# Altium integrated library Infineon_Power_MOSFET.IntLib: 1448 symbols (part 43 of 47)
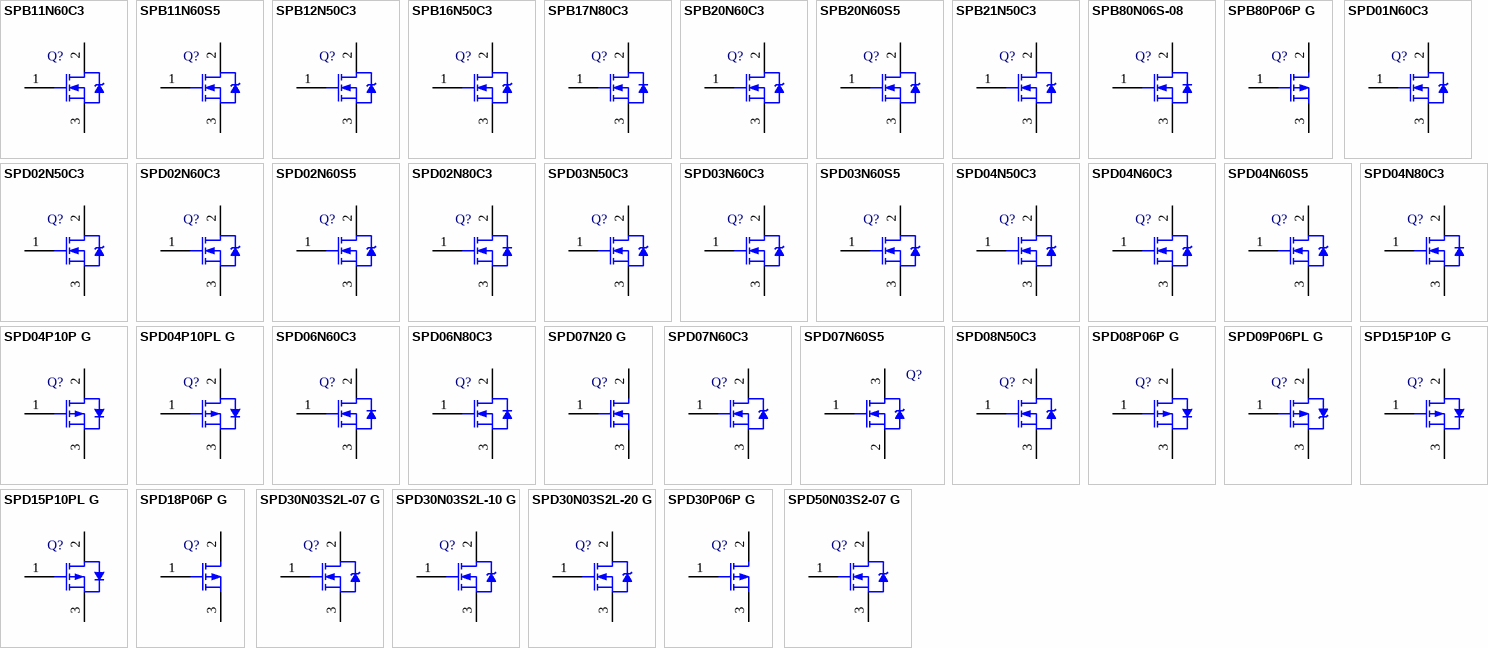
[diagram p79: symbols SPB11N60C3 to SPD50N03S2-07 G]

## SPB17N80C3
designator Q?
N-Channel CoolMOS Power-Transistor, 800 V VDS, 17 A ID, -55 to 150 degC, PG-TO263-3-2, Reel, Green; Manufacturer: Infineon; PartNumber: SPB17N80C3; Green: TRUE; ID (max): 17 A; IDpuls (max): 51 A; Mode: Enhancement; Polarity: N; Ptot (max): 227 W; QG: 91 nC; RDS (on) (max): 290 mOhm; Rth: 0.55 K/W; RthJA (max): 62 K/W; RthJC (max): 0.6 K/W; VDS (max): 800 V; VGS(th) (max): 3.9 V; VGS(th) (min): 2.1 V; DatasheetVersion: Rev. 2.5; PackageVersion: Jul-09; PackageReference: PG-TO263-3-2; PackageDescription: 3-Pin Plastic (Green) Transistor Single Outline Package, 10 x 9.25 mm Body, 2.54 mm Pitch; Supplier 1: Mouser; Supplier Part Number 1: 726-SPB17N80C3; Supplier 2: Newark; Supplier Part Number 2: 33P8201; Supplier 3: Farnell; Supplier Part Number 3: 1664102RL; Supplier 4: Farnell; Supplier Part Number 4: 1664102; Supplier 5: Digi-Key; Supplier Part Number 5: SPB17N80C3INTR-ND; Supplier 6: Digi-Key; Supplier Part Number 6: SPB17N80C3INCT-ND; Supplier 7: Digi-Key; Supplier Part Number 7: SPB17N80C3INDKR-ND; Halogen-free: TRUE; Packing: Reel; Technology: CoolMOS C3; Mounting Technology: Surface Mount; ComponentLink1Description: Manufacturer URL; ComponentLink1URL: http://www.infineon.com/; ComponentLink2Description: Datasheet; ComponentLink2URL: http://www.infineon.com/dgdl/SPB17N80C3_rev2.5_ratio.pdf?folderId=db3a304412b407950112b408e8c90004&fileId=db3a304412b407950112b42cc63d479f; ComponentLink3Description: Package Specification; ComponentLink3URL: http://www.infineon.com/dgdl/BTS141TC_DS_10.pdf?folderId=db3a3043163797a6011667aa084c0e01&fileId=db3a3043242ebc9e01242f43f58b003e&location=en.Products.Automotive_ICs.Smart_High-_and_Low-Side_Switches.HITFET___TEMPFET__-_Smart_Low-Side_Switches.DATASHEET.BTS141TC_DS_10.pdf
footprint INF-PG-TO263-3-2_N (DPAK, 3-Leads, Body 10x9.25mm, Pitch 2.54mm, IPC Medium Density)
footprint INF-PG-TO263-3-2_L (DPAK, 3-Leads, Body 10x9.25mm, Pitch 2.54mm, IPC High Density)
footprint INF-PG-TO263-3-2_M (DPAK, 3-Leads, Body 10x9.25mm, Pitch 2.54mm, IPC Low Density)
pins: 1 GATE, 2 DRAIN, 3 SOURCE

## SPB20N60C3
designator Q?
N-Channel CoolMOS Power-Transistor, 600 V VDS, 20.7 A ID, -55 to 150 degC, PG-TO263-3-2, Reel, Green; Manufacturer: Infineon; PartNumber: SPB20N60C3; Green: TRUE; ID (max): 20.7 A; IDpuls (max): 62.1 A; Polarity: N; Ptot (max): 208 W; QG: 87 nC; RDS (on) (max): 190 mOhm; Rth: 0.6 K/W; RthJA (max): 62 K/W; VDS (max): 600 V; VGS(th) (max): 3.9 V; VGS(th) (min): 2.1 V; DatasheetVersion: Rev. 2.7; PackageVersion: Rev. 01, 08/2007; PackageReference: PG-TO263-3-2; PackageDescription: 3-Pin Plastic (Green) Transistor Single Outline Package, 10.1 x 8.98 mm Body, 2.54 mm Pitch; Supplier 1: Mouser; Supplier Part Number 1: 726-SPB20N60C3; Supplier 2: Newark; Supplier Part Number 2: 98K0554; Supplier 3: Farnell; Supplier Part Number 3: 1056541RL; Supplier 4: Farnell; Supplier Part Number 4: 1056541; Supplier 5: Digi-Key; Supplier Part Number 5: SPB20N60C3INTR-ND; Supplier 6: Digi-Key; Supplier Part Number 6: SPB20N60C3INCT-ND; Supplier 7: Digi-Key; Supplier Part Number 7: SPB20N60C3INDKR-ND; Halogen-free: TRUE; Packing: Reel; RthJC (max): 0.6 K/W; Technology: CoolMOS C3; Mounting Technology: Surface Mount; ComponentLink1Description: Manufacturer URL; ComponentLink1URL: http://www.infineon.com/; ComponentLink2Description: Datasheet; ComponentLink2URL: http://www.infineon.com/dgdl/SPB20N60C3_Rev.2.8.pdf?folderId=db3a304412b407950112b408e8c90004&fileId=db3a304412b407950112b42e54cd49a4; ComponentLink3Description: Package Specification; ComponentLink3URL: http://www.infineon.com/dgdl/SPB80P06P+G_Rev+1.6_.pdf?folderId=db3a304412b407950112b408e8c90004&fileId=db3a304412b407950112b42add964408
footprint INF-PG-TO263-3-2_A_N (DPAK, 3-Leads, Body 10.1x8.98mm, Pitch 2.54mm, IPC Medium Density)
footprint INF-PG-TO263-3-2_A_L (DPAK, 3-Leads, Body 10.1x8.98mm, Pitch 2.54mm, IPC High Density)
footprint INF-PG-TO263-3-2_A_M (DPAK, 3-Leads, Body 10.1x8.98mm, Pitch 2.54mm, IPC Low Density)
pins: 1 GATE, 2 DRAIN, 3 SOURCE

## SPB20N60S5
designator Q?
N-Channel CoolMOS Power-Transistor, 600 V VDS, 20 A ID, -55 to 150 degC, PG-TO263-3-2, Reel, Green; Manufacturer: Infineon; PartNumber: SPB20N60S5; Green: TRUE; ID (max): 20 A; IDpuls (max): 40 A; Polarity: N; Ptot (max): 208 W; QG: 79 nC; RDS (on) (max): 190 mOhm; Rth: 0.6 K/W; RthJA (max): 62 K/W; VDS (max): 600 V; VGS(th) (max): 5.5 V; VGS(th) (min): 3.5 V; DatasheetVersion: Rev. 2.3; PackageVersion: Rev. 01, 08/2007; PackageReference: PG-TO263-3-2; PackageDescription: 3-Pin Plastic (Green) Transistor Single Outline Package, 10.1 x 8.98 mm Body, 2.54 mm Pitch; Supplier 1: Mouser; Supplier Part Number 1: 726-SPB20N60S5; Supplier 2: Newark; Supplier Part Number 2: 21M8755; Supplier 3: Farnell; Supplier Part Number 3: 1214264; Supplier 4: Farnell; Supplier Part Number 4: 1214264RL; Supplier 5: Digi-Key; Supplier Part Number 5: SPB20N60S5INTR-ND; Supplier 6: Digi-Key; Supplier Part Number 6: SPB20N60S5INCT-ND; Supplier 7: Digi-Key; Supplier Part Number 7: SPB20N60S5INDKR-ND; Halogen-free: TRUE; Packing: Reel; RthJC (max): 0.6 K/W; Technology: CoolMOS S5; Mounting Technology: Surface Mount; ComponentLink1Description: Manufacturer URL; ComponentLink1URL: http://www.infineon.com/; ComponentLink2Description: Datasheet; ComponentLink2URL: http://www.infineon.com/dgdl/SPB20N60S5_Rev.2.3.pdf?folderId=db3a304412b407950112b408e8c90004&fileId=db3a304412b407950112b42ca0ff473e; ComponentLink3Description: Package Specification; ComponentLink3URL: http://www.infineon.com/dgdl/SPB80P06P+G_Rev+1.6_.pdf?folderId=db3a304412b407950112b408e8c90004&fileId=db3a304412b407950112b42add964408
footprint INF-PG-TO263-3-2_A_N (DPAK, 3-Leads, Body 10.1x8.98mm, Pitch 2.54mm, IPC Medium Density)
footprint INF-PG-TO263-3-2_A_L (DPAK, 3-Leads, Body 10.1x8.98mm, Pitch 2.54mm, IPC High Density)
footprint INF-PG-TO263-3-2_A_M (DPAK, 3-Leads, Body 10.1x8.98mm, Pitch 2.54mm, IPC Low Density)
pins: 1 GATE, 2 DRAIN, 3 SOURCE

## SPB21N50C3
designator Q?
N-Channel CoolMOS Power-Transistor, 500 V VDS, 21 A ID, -55 to 150 degC, PG-TO263-3-2, Reel, Green; Manufacturer: Infineon; PartNumber: SPB21N50C3; Green: TRUE; ID (max): 21 A; IDpuls (max): 63 A; Polarity: N; Ptot (max): 208 W; QG: 95 nC; RDS (on) (max): 190 mOhm; Rth: 0.6 K/W; RthJA (max): 62 K/W; VDS (max): 500 V; VGS(th) (max): 3.9 V; VGS(th) (min): 2.1 V; DatasheetVersion: Rev. 2.3; PackageVersion: Rev. 01, 08/2007; PackageReference: PG-TO263-3-2; PackageDescription: 3-Pin Plastic (Green) Transistor Single Outline Package, 10.1 x 8.98 mm Body, 2.54 mm Pitch; Supplier 1: Mouser; Supplier Part Number 1: 726-SPB21N50C3; Supplier 2: Digi-Key; Supplier Part Number 2: SPB21N50C3INTR-ND; Supplier 3: Digi-Key; Supplier Part Number 3: SPB21N50C3INCT-ND; Supplier 4: Digi-Key; Supplier Part Number 4: SPB21N50C3INDKR-ND; Halogen-free: TRUE; Packing: Reel; RthJC (max): 0.6 K/W; Technology: CoolMOS C3; Mounting Technology: Surface Mount; ComponentLink1Description: Manufacturer URL; ComponentLink1URL: http://www.infineon.com/; ComponentLink2Description: Datasheet; ComponentLink2URL: http://www.infineon.com/dgdl/SPB21N50C3_Rev.2.3.pdf?folderId=db3a304412b407950112b408e8c90004&fileId=db3a304412b407950112b42d07ff47f0; ComponentLink3Description: Package Specification; ComponentLink3URL: http://www.infineon.com/dgdl/SPB80P06P+G_Rev+1.6_.pdf?folderId=db3a304412b407950112b408e8c90004&fileId=db3a304412b407950112b42add964408
footprint INF-PG-TO263-3-2_A_N (DPAK, 3-Leads, Body 10.1x8.98mm, Pitch 2.54mm, IPC Medium Density)
footprint INF-PG-TO263-3-2_A_L (DPAK, 3-Leads, Body 10.1x8.98mm, Pitch 2.54mm, IPC High Density)
footprint INF-PG-TO263-3-2_A_M (DPAK, 3-Leads, Body 10.1x8.98mm, Pitch 2.54mm, IPC Low Density)
pins: 1 GATE, 2 DRAIN, 3 SOURCE

## SPB80N06S-08
designator Q?
SIPMOS Power-Transistor, 55 V VDS, 80 A ID, PG-TO263-3-2, Reel, Green; Manufacturer: Infineon; PartNumber: SPB80N06S-08; Green: TRUE; ID (max): 80 A; IDpuls (max): 320 A; Ptot (max): 300 W; QG: 125 nC; RDS (on) (max) (@10V): 7.7 mOhm; RthJC (max): 0.5 K/W; VDS (max): 55 V; VGS(th) (max): 4 V; VGS(th) (min): 2.1 V; DatasheetVersion: Rev. 1.0; PackageVersion: Jul-09; PackageReference: PG-TO263-3-2; PackageDescription: 3-Pin Plastic (Green) Transistor Single Outline Package, 10 x 9.25 mm Body, 2.54 mm Pitch; Supplier 1: Mouser; Supplier Part Number 1: 726-SPB80N06S08; Supplier 2: Digi-Key; Supplier Part Number 2: SPB80N06S-08-ND; Halogen-free: TRUE; Packing: Reel; Technology: SIPMOS; Mounting Technology: Surface Mount; ComponentLink1Description: Manufacturer URL; ComponentLink1URL: http://www.infineon.com/; ComponentLink2Description: Datasheet; ComponentLink2URL: http://www.infineon.com/dgdl/SPP_B_I80N06S-08Green.pdf?folderId=db3a304412b407950112b4322c6d574b&fileId=db3a304412b407950112b43242915789&location=en.Products.Automotive_ICs.Automotive_MOSFETs.Single__N-Channel_55V_MOSFETs.DATASHEET.SPP_B_I80N06S-08Green.pdf; ComponentLink3Description: Package Specification; ComponentLink3URL: http://www.infineon.com/dgdl/BTS141TC_DS_10.pdf?folderId=db3a3043163797a6011667aa084c0e01&fileId=db3a3043242ebc9e01242f43f58b003e&location=en.Products.Automotive_ICs.Smart_High-_and_Low-Side_Switches.HITFET___TEMPFET__-_Smart_Low-Side_Switches.DATASHEET.BTS141TC_DS_10.pdf
footprint INF-PG-TO263-3-2_N (DPAK, 3-Leads, Body 10x9.25mm, Pitch 2.54mm, IPC Medium Density)
footprint INF-PG-TO263-3-2_L (DPAK, 3-Leads, Body 10x9.25mm, Pitch 2.54mm, IPC High Density)
footprint INF-PG-TO263-3-2_M (DPAK, 3-Leads, Body 10x9.25mm, Pitch 2.54mm, IPC Low Density)
pins: 1 GATE, 2 DRAIN, 3 SOURCE

## SPB80P06P G
designator Q?
P-Channel SIPMOS Power-Transistor, -60 V VDS, -80 A ID, -55 to 175 degC, PG-TO263-3-2, Reel, Green; Manufacturer: Infineon; PartNumber: SPB80P06P G; Green: TRUE; ID (max): -80 A; IDpuls (max): -320 A; Pto t (max): 375 W; QG: -115 nC; RDS (on) (max): 23 mOhm; Rth: 0.4 K/W; VDS (max): -60 V; VGS(th) (max): -4 V; VGS(th) (min): -2.1 V; DatasheetVersion: Rev. 1.6; PackageVersion: Rev. 01, 08/2007; PackageReference: PG-TO263-3-2; PackageDescription: 3-Pin Plastic (Green) Transistor Single Outline Package, 10.1 x 8.98 mm Body, 2.54 mm Pitch; Supplier 1: Mouser; Supplier Part Number 1: 726-SPB80P06PG; Supplier 2: Newark; Supplier Part Number 2: 47W3754; Supplier 3: Farnell; Supplier Part Number 3: 2212850; Supplier 4: Digi-Key; Supplier Part Number 4: SPB80P06PGINTR-ND; Supplier 5: Digi-Key; Supplier Part Number 5: SPB80P06PGINCT-ND; Halogen-free: TRUE; Packing: Reel; RthJC (max): 0.4 K/W; Mounting Technology: Surface Mount; ComponentLink1Description: Manufacturer URL; ComponentLink1URL: http://www.infineon.com/; ComponentLink2Description: Datasheet; ComponentLink2URL: http://www.infineon.com/dgdl/SPB80P06P+G_Rev+1.6_.pdf?folderId=db3a304412b407950112b408e8c90004&fileId=db3a304412b407950112b42add964408; ComponentLink3Description: Package Specification; ComponentLink3URL: http://www.infineon.com/dgdl/SPB80P06P+G_Rev+1.6_.pdf?folderId=db3a304412b407950112b408e8c90004&fileId=db3a304412b407950112b42add964408
footprint INF-PG-TO263-3-2_A_N (DPAK, 3-Leads, Body 10.1x8.98mm, Pitch 2.54mm, IPC Medium Density)
footprint INF-PG-TO263-3-2_A_L (DPAK, 3-Leads, Body 10.1x8.98mm, Pitch 2.54mm, IPC High Density)
footprint INF-PG-TO263-3-2_A_M (DPAK, 3-Leads, Body 10.1x8.98mm, Pitch 2.54mm, IPC Low Density)
pins: 1 G, 2 D, 3 S

## SPD01N60C3
designator Q?
N-Channel CoolMOS Power Transistor, 600 V VDS, 0.8 A ID, -55 to 150 degC, PG-TO252-3-1, Reel, Green; Manufacturer: Infineon; PartNumber: SPD01N60C3; Green: TRUE; ID (max): 0.8 A; IDpuls (max): 1.6 A; Polarity: N; Ptot (max): 11 W; QG: 3.9 nC; RDS (on) (max): 6000 mOhm; Rth: 11 K/W; RthJA (max): 75 K/W; VDS (max): 600 V; VGS(th) (max): 3.9 V; VGS(th) (min): 2.1 V; DatasheetVersion: Rev. 2.5; PackageVersion: Jan-10; PackageReference: PG-TO252-3-1; PackageDescription: 3-Pin Plastic (Green) Transistor Single Outline Package, 6.5 x 6.12 mm Body, 2.28 mm Pitch; Supplier 1: Mouser; Supplier Part Number 1: 726-SPD01N60C3; Supplier 2: Digi-Key; Supplier Part Number 2: SPD01N60C3INTR-ND; Supplier 3: Digi-Key; Supplier Part Number 3: SPD01N60C3INCT-ND; Supplier 4: Digi-Key; Supplier Part Number 4: SPD01N60C3INDKR-ND; Packing: Reel; RthJC (max): 11 K/W; Technology: CoolMOS C3; Mounting Technology: Surface Mount; ComponentLink1Description: Manufacturer URL; ComponentLink1URL: http://www.infineon.com/; ComponentLink2Description: Datasheet; ComponentLink2URL: http://www.infineon.com/dgdl/SPD_U01N60C3_Rev.2.5.pdf?folderId=db3a304412b407950112b408e8c90004&fileId=db3a304412b407950112b42e18974951; ComponentLink3Description: Package Specification; ComponentLink3URL: http://www.infineon.com/dgdl/TLE42744_DS_11.pdf?folderId=db3a304318f3fe290118f5a433570040&fileId=db3a304327b897500128012ccafe37d2&sId=db3a30443d67b5ca013d83f7c0ea327b
footprint INF-PG-TO252-3-1_N (DPAK, 3-Leads, Body 6.525x6.12mm, Pitch 2.28mm, IPC Medium Density)
footprint INF-PG-TO252-3-1_L (DPAK, 3-Leads, Body 6.525x6.12mm, Pitch 2.28mm, IPC High Density)
footprint INF-PG-TO252-3-1_M (DPAK, 3-Leads, Body 6.525x6.12mm, Pitch 2.28mm, IPC Low Density)
pins: 1 GATE, 2 DRAIN, 3 SOURCE

## SPD02N50C3
designator Q?
N-Channel CoolMOS Power-Transistor, 500 V VDS, 1.8 A ID, -55 to 150 degC, PG-TO252-3-1, Reel, Green; Manufacturer: Infineon; PartNumber: SPD02N50C3; Green: TRUE; ID (max): 1.8 A; IDpuls (max): 5.4 A; Polarity: N; Ptot (max): 25 W; QG: 9 nC; RDS (on) (max): 3,000 mOhm; Rth: 5 K/W; RthJA (max): 75 K/W; VDS (max): 500 V; VGS(th) (max): 3.9 V; VGS(th) (min): 2.1 V; DatasheetVersion: Rev. 2.5; PackageVersion: Jan-10; PackageReference: PG-TO252-3-1; PackageDescription: 3-Pin Plastic (Green) Transistor Single Outline Package, 6.5 x 6.12 mm Body, 2.28 mm Pitch; Supplier 1: Mouser; Supplier Part Number 1: 726-SPD02N50C3; Supplier 2: Newark; Supplier Part Number 2: 62M0132; Supplier 3: Farnell; Supplier Part Number 3: 1471785RL; Supplier 4: Farnell; Supplier Part Number 4: 1471785; Supplier 5: Digi-Key; Supplier Part Number 5: SPD02N50C3INTR-ND; Packing: Reel; RthJC (max): 5 K/W; Technology: CoolMOS C3; Mounting Technology: Surface Mount; ComponentLink1Description: Manufacturer URL; ComponentLink1URL: http://www.infineon.com/; ComponentLink2Description: Datasheet; ComponentLink2URL: http://www.infineon.com/dgdl/SPD02N50C3_Rev.2.5.pdf?folderId=db3a3043163797a6011637d4bae7003b&fileId=db3a30432b16d655012b1aa3ea202dac; ComponentLink3Description: Package Specification; ComponentLink3URL: http://www.infineon.com/dgdl/TLE42744_DS_11.pdf?folderId=db3a304318f3fe290118f5a433570040&fileId=db3a304327b897500128012ccafe37d2&sId=db3a30443d67b5ca013d83f7c0ea327b
footprint INF-PG-TO252-3-1_N (DPAK, 3-Leads, Body 6.525x6.12mm, Pitch 2.28mm, IPC Medium Density)
footprint INF-PG-TO252-3-1_L (DPAK, 3-Leads, Body 6.525x6.12mm, Pitch 2.28mm, IPC High Density)
footprint INF-PG-TO252-3-1_M (DPAK, 3-Leads, Body 6.525x6.12mm, Pitch 2.28mm, IPC Low Density)
pins: 1 GATE, 2 DRAIN, 3 SOURCE

## SPD02N60C3
designator Q?
N-Channel CoolMOS Power-Transistor, 600 V VDS, 1.8 A ID, -55 to 150 degC, PG-TO252-3-1, Reel, Green; Manufacturer: Infineon; PartNumber: SPD02N60C3; Green: TRUE; ID (max): 1.8 A; IDpuls (max): 5.4 A; Polarity: N; Ptot (max): 25 W; QG: 9.5 nC; RDS (on) (max): 3,000 mOhm; Rth: 5 K/W; RthJA (max): 75 K/W; VDS (max): 600 V; VGS(th) (max): 3.9 V; VGS(th) (min): 2.1 V; DatasheetVersion: Rev. 2.4; PackageVersion: Jan-10; PackageReference: PG-TO252-3-1; PackageDescription: 3-Pin Plastic (Green) Transistor Single Outline Package, 6.5 x 6.12 mm Body, 2.28 mm Pitch; Supplier 1: Mouser; Supplier Part Number 1: 726-SPD02N60C3; Supplier 2: Newark; Supplier Part Number 2: 59M2072; Supplier 3: Farnell; Supplier Part Number 3: 1156419; Supplier 4: Farnell; Supplier Part Number 4: 1156419RL; Supplier 5: Digi-Key; Supplier Part Number 5: SPD02N60C3INTR-ND; Supplier 6: Digi-Key; Supplier Part Number 6: SPD02N60C3INCT-ND; Packing: Reel; RthJC (max): 5 K/W; Technology: CoolMOS C3; Mounting Technology: Surface Mount; ComponentLink1Description: Manufacturer URL; ComponentLink1URL: http://www.infineon.com/; ComponentLink2Description: Datasheet; ComponentLink2URL: http://www.infineon.com/dgdl/SPD_U02N60C3_Rev.2.4.pdf?folderId=db3a3043163797a6011637d4bae7003b&fileId=db3a304318f3fe29011908a9bc1d29a1; ComponentLink3Description: Package Specification; ComponentLink3URL: http://www.infineon.com/dgdl/TLE42744_DS_11.pdf?folderId=db3a304318f3fe290118f5a433570040&fileId=db3a304327b897500128012ccafe37d2&sId=db3a30443d67b5ca013d83f7c0ea327b
footprint INF-PG-TO252-3-1_N (DPAK, 3-Leads, Body 6.525x6.12mm, Pitch 2.28mm, IPC Medium Density)
footprint INF-PG-TO252-3-1_L (DPAK, 3-Leads, Body 6.525x6.12mm, Pitch 2.28mm, IPC High Density)
footprint INF-PG-TO252-3-1_M (DPAK, 3-Leads, Body 6.525x6.12mm, Pitch 2.28mm, IPC Low Density)
pins: 1 GATE, 2 DRAIN, 3 SOURCE

## SPD02N60S5
designator Q?
N-Channel CoolMOS Power-Transistor, 600 V VDS, 1.8 A ID, -55 to 150 degC, PG-TO252-3-1, Reel, Green; Manufacturer: Infineon; PartNumber: SPD02N60S5; Green: TRUE; ID (max): 1.8 A; IDpuls (max): 3.2 A; Polarity: N; Ptot (max): 25 W; QG: 7.3 nC; RDS (on) (max): 3,000 mOhm; Rth: 5 K/W; RthJA (max): 75 K/W; VDS (max): 600 V; VGS(th) (max): 5.5 V; VGS(th) (min): 3.5 V; DatasheetVersion: Rev. 2.5; PackageVersion: Jan-10; PackageReference: PG-TO252-3-1; PackageDescription: 3-Pin Plastic (Green) Transistor Single Outline Package, 6.5 x 6.12 mm Body, 2.28 mm Pitch; Supplier 1: Mouser; Supplier Part Number 1: 726-SPD02N60S5; Supplier 2: Newark; Supplier Part Number 2: 62M0133; Supplier 3: Farnell; Supplier Part Number 3: 1471786RL; Supplier 4: Farnell; Supplier Part Number 4: 1471786; Supplier 5: Digi-Key; Supplier Part Number 5: SPD02N60S5INTR-ND; Supplier 6: Digi-Key; Supplier Part Number 6: SPD02N60S5INCT-ND; Supplier 7: Digi-Key; Supplier Part Number 7: SPD02N60S5INDKR-ND; Packing: Reel; RthJC (max): 5 K/W; Technology: CoolMOS S5; Mounting Technology: Surface Mount; ComponentLink1Description: Manufacturer URL; ComponentLink1URL: http://www.infineon.com/; ComponentLink2Description: Datasheet; ComponentLink2URL: http://www.infineon.com/dgdl/SPD_U02N60S5_Rev.2.5.pdf?folderId=db3a3043163797a6011638902f380139&fileId=db3a3043163797a601163890f461013a; ComponentLink3Description: Package Specification; ComponentLink3URL: http://www.infineon.com/dgdl/TLE42744_DS_11.pdf?folderId=db3a304318f3fe290118f5a433570040&fileId=db3a304327b897500128012ccafe37d2&sId=db3a30443d67b5ca013d83f7c0ea327b
footprint INF-PG-TO252-3-1_N (DPAK, 3-Leads, Body 6.525x6.12mm, Pitch 2.28mm, IPC Medium Density)
footprint INF-PG-TO252-3-1_L (DPAK, 3-Leads, Body 6.525x6.12mm, Pitch 2.28mm, IPC High Density)
footprint INF-PG-TO252-3-1_M (DPAK, 3-Leads, Body 6.525x6.12mm, Pitch 2.28mm, IPC Low Density)
pins: 1 GATE, 2 DRAIN, 3 SOURCE

## SPD02N80C3
designator Q?
N-Channel CoolMOS Power-Transistor, 800 V VDS, 2 A ID, -55 to 150 degC, PG-TO252-3-1, Reel, Green; Manufacturer: Infineon; PartNumber: SPD02N80C3; Green: TRUE; ID (max): 2 A; IDpuls (max): 6 A; Mode: Enhancement; Polarity: N; Ptot (max): 42 W; QG: 12 nC; RDS (on) (max): 2,700 mOhm; Rth: 3 K/W; RthJA (max): 62 K/W; VDS (max): 800 V; VGS(th) (max): 3.9 V; VGS(th) (min): 2.1 V; DatasheetVersion: Rev. 2.91; PackageVersion: Jan-10; PackageReference: PG-TO252-3-1; PackageDescription: 3-Pin Plastic (Green) Transistor Single Outline Package, 6.5 x 6.12 mm Body, 2.28 mm Pitch; Supplier 1: Mouser; Supplier Part Number 1: 726-SPD02N80C3; Supplier 2: Newark; Supplier Part Number 2: 33P8203; Supplier 3: Farnell; Supplier Part Number 3: 1664105RL; Supplier 4: Farnell; Supplier Part Number 4: 1664105; Supplier 5: Digi-Key; Supplier Part Number 5: SPD02N80C3INTR-ND; Supplier 6: Digi-Key; Supplier Part Number 6: SPD02N80C3INCT-ND; Supplier 7: Digi-Key; Supplier Part Number 7: SPD02N80C3INDKR-ND; Packing: Reel; RthJC (max): 3 K/W; Technology: CoolMOS C3; Mounting Technology: Surface Mount; ComponentLink1Description: Manufacturer URL; ComponentLink1URL: http://www.infineon.com/; ComponentLink2Description: Datasheet; ComponentLink2URL: http://www.infineon.com/dgdl/SPD02N80C3_rev2+9_1.pdf?folderId=db3a304412b407950112b408e8c90004&fileId=db3a304412b407950112b42cd2e347b1; ComponentLink3Description: Package Specification; ComponentLink3URL: http://www.infineon.com/dgdl/TLE42744_DS_11.pdf?folderId=db3a304318f3fe290118f5a433570040&fileId=db3a304327b897500128012ccafe37d2&sId=db3a30443d67b5ca013d83f7c0ea327b
footprint INF-PG-TO252-3-1_N (DPAK, 3-Leads, Body 6.525x6.12mm, Pitch 2.28mm, IPC Medium Density)
footprint INF-PG-TO252-3-1_L (DPAK, 3-Leads, Body 6.525x6.12mm, Pitch 2.28mm, IPC High Density)
footprint INF-PG-TO252-3-1_M (DPAK, 3-Leads, Body 6.525x6.12mm, Pitch 2.28mm, IPC Low Density)
pins: 1 GATE, 2 DRAIN, 3 SOURCE

## SPD03N50C3
designator Q?
N-Channel CoolMOS C6 CFD Power-Transistor, 650 V VDS, 17.5 A ID, -55 to 150 degC, PG-TO220-3-31, Tube, Green; Manufacturer: Infineon; PartNumber: SPD03N50C3; Green: TRUE; ID (max): 3.2 A; IDpuls (max): 9.6 A; Packing: Reel; Polarity: N; Ptot (max): 38 W; QG: 15 nC; RDS (on) (max): 1,400 mOhm; Rth: 3.3 K/W; RthJA (max): 75 K/W; VDS (max): 500 V; VGS(th) (max): 3.9 V; VGS(th) (min): 2.1 V; DatasheetVersion: Rev. 2.5; PackageVersion: Jan-10; PackageReference: PG-TO252-3-1; PackageDescription: 3-Pin Plastic (Green) Transistor Single Outline Package, 6.5 x 6.12 mm Body, 2.28 mm Pitch; Supplier 1: Mouser; Supplier Part Number 1: 726-SPD03N50C3; Supplier 2: Newark; Supplier Part Number 2: 33P8204; Supplier 3: Farnell; Supplier Part Number 3: 1664106; Supplier 4: Farnell; Supplier Part Number 4: 1664106RL; Supplier 5: Digi-Key; Supplier Part Number 5: SPD03N50C3INTR-ND; Supplier 6: Digi-Key; Supplier Part Number 6: SPD03N50C3INCT-ND; Supplier 7: Digi-Key; Supplier Part Number 7: SPD03N50C3INDKR-ND; RthJC (max): 3.3 K/W; Technology: CoolMOS C3; Mounting Technology: Surface Mount; ComponentLink1Description: Manufacturer URL; ComponentLink1URL: http://www.infineon.com/; ComponentLink2Description: Datasheet; ComponentLink2URL: http://www.infineon.com/dgdl/SPD03N50C3_Rev.2.5.pdf?folderId=db3a304412b407950112b408e8c90004&fileId=db3a304412b407950112b42d0bef47f4; ComponentLink3Description: Package Specification; ComponentLink3URL: http://www.infineon.com/dgdl/TLE42744_DS_11.pdf?folderId=db3a304318f3fe290118f5a433570040&fileId=db3a304327b897500128012ccafe37d2&sId=db3a30443d67b5ca013d83f7c0ea327b
footprint INF-PG-TO252-3-1_N (DPAK, 3-Leads, Body 6.525x6.12mm, Pitch 2.28mm, IPC Medium Density)
footprint INF-PG-TO252-3-1_L (DPAK, 3-Leads, Body 6.525x6.12mm, Pitch 2.28mm, IPC High Density)
footprint INF-PG-TO252-3-1_M (DPAK, 3-Leads, Body 6.525x6.12mm, Pitch 2.28mm, IPC Low Density)
pins: 1 GATE, 2 DRAIN, 3 SOURCE

## SPD03N60C3
designator Q?
N-Channel CoolMOS C6 CFD Power-Transistor, 650 V VDS, 17.5 A ID, -55 to 150 degC, PG-TO220-3-31, Tube, Green; Manufacturer: Infineon; PartNumber: SPD03N60C3; Green: TRUE; ID (max): 3.2 A; IDpuls (max): 9.6 A; Packing: Reel; Polarity: N; Ptot (max): 38 W; QG: 13 nC; RDS (on) (max): 1,400 mOhm; Rth: 3.3 K/W; RthJA (max): 75 K/W; VDS (max): 600 V; VGS(th) (max): 3.9 V; VGS(th) (min): 2.1 V; DatasheetVersion: Rev. 2.5; PackageVersion: Jan-10; PackageReference: PG-TO252-3-1; PackageDescription: 3-Pin Plastic (Green) Transistor Single Outline Package, 6.5 x 6.12 mm Body, 2.28 mm Pitch; Supplier 1: Mouser; Supplier Part Number 1: 726-SPD03N60C3; Supplier 2: Newark; Supplier Part Number 2: 47W3755; Supplier 3: Farnell; Supplier Part Number 3: 2212860; Supplier 4: Digi-Key; Supplier Part Number 4: SPD03N60C3INTR-ND; Supplier 5: Digi-Key; Supplier Part Number 5: SPD03N60C3INCT-ND; Supplier 6: Digi-Key; Supplier Part Number 6: SPD03N60C3INDKR-ND; RthJC (max): 3.3 K/W; Technology: CoolMOS C3; Mounting Technology: Surface Mount; ComponentLink1Description: Manufacturer URL; ComponentLink1URL: http://www.infineon.com/; ComponentLink2Description: Datasheet; ComponentLink2URL: http://www.infineon.com/dgdl/SPD_U03N60C3_Rev.2.5.pdf?folderId=db3a3043163797a6011638933eda014b&fileId=db3a3043163797a6011638939047014c; ComponentLink3Description: Package Specification; ComponentLink3URL: http://www.infineon.com/dgdl/TLE42744_DS_11.pdf?folderId=db3a304318f3fe290118f5a433570040&fileId=db3a304327b897500128012ccafe37d2&sId=db3a30443d67b5ca013d83f7c0ea327b
footprint INF-PG-TO252-3-1_N (DPAK, 3-Leads, Body 6.525x6.12mm, Pitch 2.28mm, IPC Medium Density)
footprint INF-PG-TO252-3-1_L (DPAK, 3-Leads, Body 6.525x6.12mm, Pitch 2.28mm, IPC High Density)
footprint INF-PG-TO252-3-1_M (DPAK, 3-Leads, Body 6.525x6.12mm, Pitch 2.28mm, IPC Low Density)
pins: 1 GATE, 2 DRAIN, 3 SOURCE

## SPD03N60S5
designator Q?
N-Channel CoolMOS C6 CFD Power-Transistor, 650 V VDS, 17.5 A ID, -55 to 150 degC, PG-TO220-3-31, Tube, Green; Manufacturer: Infineon; PartNumber: SPD03N60S5; Green: TRUE; ID (max): 3.2 A; IDpuls (max): 5.7 A; Packing: Reel; Polarity: N; Ptot (max): 38 W; QG: 12.4 nC; RDS (on) (max): 1,400 mOhm; Rth: 3.3 K/W; RthJA (max): 75 K/W; VDS (max): 600 V; VGS(th) (max): 5.5 V; VGS(th) (min): 3.5 V; DatasheetVersion: Rev. 2.5; PackageVersion: Jan-10; PackageReference: PG-TO252-3-1; PackageDescription: 3-Pin Plastic (Green) Transistor Single Outline Package, 6.5 x 6.12 mm Body, 2.28 mm Pitch; Supplier 1: Mouser; Supplier Part Number 1: 726-SPD03N60S5; Supplier 2: Digi-Key; Supplier Part Number 2: SPD03N60S5INTR-ND; Supplier 3: Digi-Key; Supplier Part Number 3: SPD03N60S5INCT-ND; Supplier 4: Digi-Key; Supplier Part Number 4: SPD03N60S5INDKR-ND; RthJC (max): 3.3 K/W; Technology: CoolMOS S5; Mounting Technology: Surface Mount; ComponentLink1Description: Manufacturer URL; ComponentLink1URL: http://www.infineon.com/; ComponentLink2Description: Datasheet; ComponentLink2URL: http://www.infineon.com/dgdl/SPD_U03N60S5_Rev.2.5.pdf?folderId=db3a3043163797a6011638933eda014b&fileId=db3a30432ad629a6012af04b57915d96; ComponentLink3Description: Package Specification; ComponentLink3URL: http://www.infineon.com/dgdl/TLE42744_DS_11.pdf?folderId=db3a304318f3fe290118f5a433570040&fileId=db3a304327b897500128012ccafe37d2&sId=db3a30443d67b5ca013d83f7c0ea327b
footprint INF-PG-TO252-3-1_N (DPAK, 3-Leads, Body 6.525x6.12mm, Pitch 2.28mm, IPC Medium Density)
footprint INF-PG-TO252-3-1_L (DPAK, 3-Leads, Body 6.525x6.12mm, Pitch 2.28mm, IPC High Density)
footprint INF-PG-TO252-3-1_M (DPAK, 3-Leads, Body 6.525x6.12mm, Pitch 2.28mm, IPC Low Density)
pins: 1 GATE, 2 DRAIN, 3 SOURCE

## SPD04N50C3
designator Q?
N-Channel CoolMOS C6 CFD Power-Transistor, 650 V VDS, 17.5 A ID, -55 to 150 degC, PG-TO220-3-31, Tube, Green; Manufacturer: Infineon; PartNumber: SPD04N50C3; Green: TRUE; ID (max): 4.5 A; IDpuls (max): 13.5 A; Packing: Reel; Polarity: N; Ptot (max): 50 W; QG: 22 nC; RDS (on) (max): 950 mOhm; Rth: 2.5 K/W; RthJA (max): 62 K/W; VDS (max): 500 V; VGS(th) (max): 3.9 V; VGS(th) (min): 2.1 V; DatasheetVersion: Rev. 2.5; PackageVersion: Jan-10; PackageReference: PG-TO252-3-1; PackageDescription: 3-Pin Plastic (Green) Transistor Single Outline Package, 6.5 x 6.12 mm Body, 2.28 mm Pitch; Supplier 1: Mouser; Supplier Part Number 1: 726-SPD04N50C3; Supplier 2: Newark; Supplier Part Number 2: 33P8205; Supplier 3: Farnell; Supplier Part Number 3: 1664107; Supplier 4: Digi-Key; Supplier Part Number 4: SPD04N50C3INTR-ND; Supplier 5: Digi-Key; Supplier Part Number 5: SPD04N50C3INCT-ND; Supplier 6: Digi-Key; Supplier Part Number 6: SPD04N50C3INDKR-ND; RthJC (max): 2.5 K/W; Technology: CoolMOS C3; Mounting Technology: Surface Mount; ComponentLink1Description: Manufacturer URL; ComponentLink1URL: http://www.infineon.com/; ComponentLink2Description: Datasheet; ComponentLink2URL: http://www.infineon.com/dgdl/SPD04N50C3_Rev+2+5_pdf.pdf?folderId=db3a304412b407950112b408e8c90004&fileId=db3a304412b407950112b42d0fc547f8; ComponentLink3Description: Package Specification; ComponentLink3URL: http://www.infineon.com/dgdl/TLE42744_DS_11.pdf?folderId=db3a304318f3fe290118f5a433570040&fileId=db3a304327b897500128012ccafe37d2&sId=db3a30443d67b5ca013d83f7c0ea327b
footprint INF-PG-TO252-3-1_N (DPAK, 3-Leads, Body 6.525x6.12mm, Pitch 2.28mm, IPC Medium Density)
footprint INF-PG-TO252-3-1_L (DPAK, 3-Leads, Body 6.525x6.12mm, Pitch 2.28mm, IPC High Density)
footprint INF-PG-TO252-3-1_M (DPAK, 3-Leads, Body 6.525x6.12mm, Pitch 2.28mm, IPC Low Density)
pins: 1 GATE, 2 DRAIN, 3 SOURCE

## SPD04N60C3
designator Q?
N-Channel CoolMOS Power-Transistor, 600 V VDS, 4.5 A ID, -55 to 150 degC, PG-TO252-3-1, Reel, Green; Manufacturer: Infineon; PartNumber: SPD04N60C3; Green: TRUE; ID (max): 4.5 A; IDpuls (max): 13.5 A; Polarity: N; Ptot (max): 50 W; QG: 19 nC; RDS (on) (max): 950 mOhm; Rth: 2.5 K/W; RthJA (max): 75 K/W; VDS (max): 600 V; VGS(th) (max): 3.9 V; VGS(th) (min): 2.1 V; DatasheetVersion: Rev. 2.5; PackageVersion: Jan-10; PackageReference: PG-TO252-3-1; PackageDescription: 3-Pin Plastic (Green) Transistor Single Outline Package, 6.5 x 6.12 mm Body, 2.28 mm Pitch; Supplier 1: Mouser; Supplier Part Number 1: 726-SPD04N60C3; Supplier 2: Newark; Supplier Part Number 2: 47W3756; Supplier 3: Farnell; Supplier Part Number 3: 2212855; Supplier 4: Digi-Key; Supplier Part Number 4: SPD04N60C3INTR-ND; Supplier 5: Digi-Key; Supplier Part Number 5: SPD04N60C3INCT-ND; Supplier 6: Digi-Key; Supplier Part Number 6: SPD04N60C3INDKR-ND; Packing: Reel; RthJC (max): 2.5 K/W; Technology: CoolMOS C3; Mounting Technology: Surface Mount; ComponentLink1Description: Manufacturer URL; ComponentLink1URL: http://www.infineon.com/; ComponentLink2Description: Datasheet; ComponentLink2URL: http://www.infineon.com/dgdl/SPD_U04N60C3_Rev+2.5._pdf.pdf?folderId=db3a3043163797a6011637d4bae7003b&fileId=db3a304318f3fe29011908b1f92d29b1; ComponentLink3Description: Package Specification; ComponentLink3URL: http://www.infineon.com/dgdl/TLE42744_DS_11.pdf?folderId=db3a304318f3fe290118f5a433570040&fileId=db3a304327b897500128012ccafe37d2&sId=db3a30443d67b5ca013d83f7c0ea327b
footprint INF-PG-TO252-3-1_N (DPAK, 3-Leads, Body 6.525x6.12mm, Pitch 2.28mm, IPC Medium Density)
footprint INF-PG-TO252-3-1_L (DPAK, 3-Leads, Body 6.525x6.12mm, Pitch 2.28mm, IPC High Density)
footprint INF-PG-TO252-3-1_M (DPAK, 3-Leads, Body 6.525x6.12mm, Pitch 2.28mm, IPC Low Density)
pins: 1 GATE, 2 DRAIN, 3 SOURCE

## SPD04N60S5
designator Q?
N-Channel CoolMOS C6 CFD Power-Transistor, 650 V VDS, 17.5 A ID, -55 to 150 degC, PG-TO220-3-31, Tube, Green; Manufacturer: Infineon; PartNumber: SPD04N60S5; Green: TRUE; ID (max): 4.5 A; IDpuls (max): 9 A; Packing: Reel; Polarity: N; Ptot (max): 50 W; QG: 17.6 nC; RDS (on) (max): 950 mOhm; Rth: 2.5 K/W; RthJA (max): 62 K/W; VDS (max): 600 V; VGS(th) (max): 4.5 V; VGS(th) (min): 3.5 V; DatasheetVersion: Rev. 2.5; PackageVersion: Jan-10; PackageReference: PG-TO252-3-1; PackageDescription: 3-Pin Plastic (Green) Transistor Single Outline Package, 6.5 x 6.12 mm Body, 2.28 mm Pitch; Supplier 1: Mouser; Supplier Part Number 1: 726-SPD04N60S5; Supplier 2: Digi-Key; Supplier Part Number 2: SPD04N60S5INTR-ND; Supplier 3: Digi-Key; Supplier Part Number 3: SPD04N60S5INCT-ND; Supplier 4: Digi-Key; Supplier Part Number 4: SPD04N60S5INDKR-ND; RthJC (max): 2.5 K/W; Technology: CoolMOS S5; Mounting Technology: Surface Mount; ComponentLink1Description: Manufacturer URL; ComponentLink1URL: http://www.infineon.com/; ComponentLink2Description: Datasheet; ComponentLink2URL: http://www.infineon.com/dgdl/SPD_U04N60S5_Rev.2.5.pdf?folderId=db3a3043163797a6011637d4bae7003b&fileId=db3a304318f3fe29011908be09e029c0; ComponentLink3Description: Package Specification; ComponentLink3URL: http://www.infineon.com/dgdl/TLE42744_DS_11.pdf?folderId=db3a304318f3fe290118f5a433570040&fileId=db3a304327b897500128012ccafe37d2&sId=db3a30443d67b5ca013d83f7c0ea327b
footprint INF-PG-TO252-3-1_N (DPAK, 3-Leads, Body 6.525x6.12mm, Pitch 2.28mm, IPC Medium Density)
footprint INF-PG-TO252-3-1_L (DPAK, 3-Leads, Body 6.525x6.12mm, Pitch 2.28mm, IPC High Density)
footprint INF-PG-TO252-3-1_M (DPAK, 3-Leads, Body 6.525x6.12mm, Pitch 2.28mm, IPC Low Density)
pins: 1 GATE, 2 DRAIN, 3 SOURCE

## SPD04N80C3
designator Q?
N-Channel CoolMOS Power-Transistor, 800 V VDS, 4 A ID, -55 to 150 degC, PG-TO252-3-1, Reel, Green; Manufacturer: Infineon; PartNumber: SPD04N80C3; Green: TRUE; ID (max): 4 A; IDpuls (max): 12 A; Polarity: N; Ptot (max): 63 W; QG: 23 nC; RDS (on) (max): 1,300 mOhm; Rth: 2 K/W; RthJA (max): 62 K/W; VDS (max): 800 V; VGS(th) (max): 3.9 V; VGS(th) (min): 2.1 V; DatasheetVersion: Rev. 2.91; PackageVersion: Jan-10; PackageReference: PG-TO252-3-1; PackageDescription: 3-Pin Plastic (Green) Transistor Single Outline Package, 6.5 x 6.12 mm Body, 2.28 mm Pitch; Supplier 1: Mouser; Supplier Part Number 1: 726-SPD04N80C3; Supplier 2: Newark; Supplier Part Number 2: 33P8206; Supplier 3: Farnell; Supplier Part Number 3: 1664108; Supplier 4: Farnell; Supplier Part Number 4: 1664108RL; Supplier 5: Digi-Key; Supplier Part Number 5: SPD04N80C3INTR-ND; Supplier 6: Digi-Key; Supplier Part Number 6: SPD04N80C3INCT-ND; Supplier 7: Digi-Key; Supplier Part Number 7: SPD04N80C3INDKR-ND; Packing: Reel; RthJC (max): 2 K/W; Technology: CoolMOS C3; Mounting Technology: Surface Mount; ComponentLink1Description: Manufacturer URL; ComponentLink1URL: http://www.infineon.com/; ComponentLink2Description: Datasheet; ComponentLink2URL: http://www.infineon.com/dgdl/SPD04N80C3_rev2+9_1.pdf?folderId=db3a3043163797a6011638491238009b&fileId=db3a3043163797a601163849e537009c; ComponentLink3Description: Package Specification; ComponentLink3URL: http://www.infineon.com/dgdl/TLE42744_DS_11.pdf?folderId=db3a304318f3fe290118f5a433570040&fileId=db3a304327b897500128012ccafe37d2&sId=db3a30443d67b5ca013d83f7c0ea327b
footprint INF-PG-TO252-3-1_N (DPAK, 3-Leads, Body 6.525x6.12mm, Pitch 2.28mm, IPC Medium Density)
footprint INF-PG-TO252-3-1_L (DPAK, 3-Leads, Body 6.525x6.12mm, Pitch 2.28mm, IPC High Density)
footprint INF-PG-TO252-3-1_M (DPAK, 3-Leads, Body 6.525x6.12mm, Pitch 2.28mm, IPC Low Density)
pins: 1 GATE, 2 DRAIN, 3 SOURCE

## SPD04P10P G
designator Q?
P-Channel SIPMOS Power-Transistor, -100 V VDS, -4 A ID, -55 to 175 degC, PG-TO252-3-1, Reel, Green; Manufacturer: Infineon; PartNumber: SPD04P10P G; Green: TRUE; ID (max): -4 A; IDpuls (max): -16 A; Mode: Enhancement; Polarity: P; Pto t (max): 38 W; QG: 9 nC; RDS (on) (max): 1,000 mOhm; Rth: 3.9 K/W; VDS (max): -100 V; VGS(th) (max): -4 V; VGS(th) (min): -2.1 V; DatasheetVersion: Rev. 1.6; PackageVersion: Jan-10; PackageReference: PG-TO252-3-1; PackageDescription: 3-Pin Plastic (Green) Transistor Single Outline Package, 6.5 x 6.12 mm Body, 2.28 mm Pitch; Supplier 1: Mouser; Supplier Part Number 1: 726-SPD04P10PG; Supplier 2: Digi-Key; Supplier Part Number 2: SPD04P10P G-ND; Packing: Reel; RthJC (max): 3.9 K/W; Technology: SIPMOS; Mounting Technology: Surface Mount; ComponentLink1Description: Manufacturer URL; ComponentLink1URL: http://www.infineon.com/; ComponentLink2Description: Datasheet; ComponentLink2URL: http://www.infineon.com/dgdl/SPD04P10P_Rev1.6.pdf?folderId=db3a304412b407950112b408e8c90004&fileId=db3a304412b407950112b42ad1e743f8; ComponentLink3Description: Package Specification; ComponentLink3URL: http://www.infineon.com/dgdl/TLE42744_DS_11.pdf?folderId=db3a304318f3fe290118f5a433570040&fileId=db3a304327b897500128012ccafe37d2&sId=db3a30443d67b5ca013d83f7c0ea327b
footprint INF-PG-TO252-3-1_N (DPAK, 3-Leads, Body 6.525x6.12mm, Pitch 2.28mm, IPC Medium Density)
footprint INF-PG-TO252-3-1_L (DPAK, 3-Leads, Body 6.525x6.12mm, Pitch 2.28mm, IPC High Density)
footprint INF-PG-TO252-3-1_M (DPAK, 3-Leads, Body 6.525x6.12mm, Pitch 2.28mm, IPC Low Density)
pins: 1 GATE, 2 DRAIN, 3 SOURCE

## SPD04P10PL G
designator Q?
P-Channel SIPMOS Power-Transistor, -100 V VDS, -4.2 A ID, -55 to 175 degC, PG-TO252-3-1, Reel, Green; Manufacturer: Infineon; PartNumber: SPD04P10PL G; Green: TRUE; ID (max): -4.2 A; IDpuls (max): -16.8 A; Mode: Enhancement; Pto t (max): 38 W; QG: 12 nC; RDS (on) (max): 850 mOhm; RDS (on) (max) (@4.5V): 1050 mOhm; Rth: 3.9 K/W; RthJC (max): 3.9 K/W; VDS (max): -100 V; VGS(th) (max): -2 V; VGS(th) (min): -1 V; DatasheetVersion: Rev. 1.6; PackageVersion: Jan-10; PackageReference: PG-TO252-3-1; PackageDescription: 3-Pin Plastic (Green) Transistor Single Outline Package, 6.5 x 6.12 mm Body, 2.28 mm Pitch; Supplier 1: Mouser; Supplier Part Number 1: 726-SPD04P10PLG; Supplier 2: Newark; Supplier Part Number 2: 47W3757; Supplier 3: Farnell; Supplier Part Number 3: 2212868; Supplier 4: Digi-Key; Supplier Part Number 4: SPD04P10PL G-ND; Packing: Reel; Technology: SIPMOS; Mounting Technology: Surface Mount; ComponentLink1Description: Manufacturer URL; ComponentLink1URL: http://www.infineon.com/; ComponentLink2Description: Datasheet; ComponentLink2URL: http://www.infineon.com/dgdl/SPD04P10PL_Rev1.6.pdf?folderId=db3a304412b407950112b408e8c90004&fileId=db3a304412b407950112b42acf1843f4; ComponentLink3Description: Package Specification; ComponentLink3URL: http://www.infineon.com/dgdl/TLE42744_DS_11.pdf?folderId=db3a304318f3fe290118f5a433570040&fileId=db3a304327b897500128012ccafe37d2&sId=db3a30443d67b5ca013d83f7c0ea327b
footprint INF-PG-TO252-3-1_N (DPAK, 3-Leads, Body 6.525x6.12mm, Pitch 2.28mm, IPC Medium Density)
footprint INF-PG-TO252-3-1_L (DPAK, 3-Leads, Body 6.525x6.12mm, Pitch 2.28mm, IPC High Density)
footprint INF-PG-TO252-3-1_M (DPAK, 3-Leads, Body 6.525x6.12mm, Pitch 2.28mm, IPC Low Density)
pins: 1 GATE, 2 DRAIN, 3 SOURCE

## SPD06N60C3
designator Q?
N-Channel CoolMOS Power-Transistor, 600 V VDS, 6.2 A ID, -55 to 150 degC, PG-TO252-3-1, Reel, Green; Manufacturer: Infineon; PartNumber: SPD06N60C3; Green: TRUE; ID (max): 6.2 A; IDpuls (max): 18.6 A; Polarity: N; Ptot (max): 74 W; QG: 24 nC; RDS (on) (max): 750 mOhm; Rth: 1.7 K/W; RthJA (max): 75 K/W; VDS (max): 600 V; VGS(th) (max): 3.9 V; VGS(th) (min): 2.1 V; DatasheetVersion: Rev. 1.5; PackageVersion: Jan-10; PackageReference: PG-TO252-3-1; PackageDescription: 3-Pin Plastic (Green) Transistor Single Outline Package, 6.5 x 6.12 mm Body, 2.28 mm Pitch; Supplier 1: Mouser; Supplier Part Number 1: 726-SPD06N60C3; Supplier 2: Newark; Supplier Part Number 2: 33P8207; Supplier 3: Farnell; Supplier Part Number 3: 1664109RL; Supplier 4: Farnell; Supplier Part Number 4: 1664109; Supplier 5: Digi-Key; Supplier Part Number 5: SPD06N60C3INTR-ND; Supplier 6: Digi-Key; Supplier Part Number 6: SPD06N60C3INCT-ND; Supplier 7: Digi-Key; Supplier Part Number 7: SPD06N60C3INDKR-ND; Packing: Reel; RthJC (max): 1.7 K/W; Technology: CoolMOS C3; Mounting Technology: Surface Mount; ComponentLink1Description: Manufacturer URL; ComponentLink1URL: http://www.infineon.com/; ComponentLink2Description: Datasheet; ComponentLink2URL: http://www.infineon.com/dgdl/SPD06N60C3_Rev.1.5.pdf?folderId=db3a3043163797a6011638933eda014b&fileId=db3a3043163797a601163897613c015b; ComponentLink3Description: Package Specification; ComponentLink3URL: http://www.infineon.com/dgdl/TLE42744_DS_11.pdf?folderId=db3a304318f3fe290118f5a433570040&fileId=db3a304327b897500128012ccafe37d2&sId=db3a30443d67b5ca013d83f7c0ea327b
footprint INF-PG-TO252-3-1_N (DPAK, 3-Leads, Body 6.525x6.12mm, Pitch 2.28mm, IPC Medium Density)
footprint INF-PG-TO252-3-1_L (DPAK, 3-Leads, Body 6.525x6.12mm, Pitch 2.28mm, IPC High Density)
footprint INF-PG-TO252-3-1_M (DPAK, 3-Leads, Body 6.525x6.12mm, Pitch 2.28mm, IPC Low Density)
pins: 1 GATE, 2 DRAIN, 3 SOURCE

## SPD06N80C3
designator Q?
N-Channel CoolMOS Power-Transistor, 800 V VDS, 6 A ID, -55 to 150 degC, PG-TO252-3-1, Reel, Green; Manufacturer: Infineon; PartNumber: SPD06N80C3; Green: TRUE; ID (max): 6 A; IDpuls (max): 18 A; Polarity: N; Ptot (max): 83 W; QG: 31 nC; RDS (on) (max): 900 mOhm; Rth: 1.5 K/W; RthJA (max): 62 K/W; VDS (max): 800 V; VGS(th) (max): 3.9 V; VGS(th) (min): 2.1 V; DatasheetVersion: Rev. 2.91; PackageVersion: Jan-10; PackageReference: PG-TO252-3-1; PackageDescription: 3-Pin Plastic (Green) Transistor Single Outline Package, 6.5 x 6.12 mm Body, 2.28 mm Pitch; Supplier 1: Mouser; Supplier Part Number 1: 726-SPD06N80C3; Supplier 2: Newark; Supplier Part Number 2: 33P8208; Supplier 3: Farnell; Supplier Part Number 3: 1664110RL; Supplier 4: Farnell; Supplier Part Number 4: 1664110; Supplier 5: Digi-Key; Supplier Part Number 5: SPD06N80C3INTR-ND; Supplier 6: Digi-Key; Supplier Part Number 6: SPD06N80C3INCT-ND; Supplier 7: Digi-Key; Supplier Part Number 7: SPD06N80C3INDKR-ND; Packing: Reel; RthJC (max): 1.5 K/W; Technology: CoolMOS C3; Mounting Technology: Surface Mount; ComponentLink1Description: Manufacturer URL; ComponentLink1URL: http://www.infineon.com/; ComponentLink2Description: Datasheet; ComponentLink2URL: http://www.infineon.com/dgdl/SPD06N80C3_rev2.91.pdf?folderId=db3a3043163797a6011637d4bae7003b&fileId=db3a30432b16d655012b1adabbca2dbf; ComponentLink3Description: Package Specification; ComponentLink3URL: http://www.infineon.com/dgdl/TLE42744_DS_11.pdf?folderId=db3a304318f3fe290118f5a433570040&fileId=db3a304327b897500128012ccafe37d2&sId=db3a30443d67b5ca013d83f7c0ea327b
footprint INF-PG-TO252-3-1_N (DPAK, 3-Leads, Body 6.525x6.12mm, Pitch 2.28mm, IPC Medium Density)
footprint INF-PG-TO252-3-1_L (DPAK, 3-Leads, Body 6.525x6.12mm, Pitch 2.28mm, IPC High Density)
footprint INF-PG-TO252-3-1_M (DPAK, 3-Leads, Body 6.525x6.12mm, Pitch 2.28mm, IPC Low Density)
pins: 1 GATE, 2 DRAIN, 3 SOURCE

## SPD07N20 G
designator Q?
N-Channel SIPMOS Power-Transistor, 200 V VDS, 7 A ID, -55 to 175 degC, PG-TO252-3-11, Reel, Green; Manufacturer: Infineon; PartNumber: SPD07N20 G; Green: TRUE; ID (max): 7 A; IDpuls (max): 28 A; Polarity: N; Ptot (max): 40 W; QG: 21 nC; RDS (on) (max): 400 mOhm; Rth: 3.1 K/W; RthJA (max): 70 K/W; VDS (max): 200 V; VGS(th) (max): 4 V; VGS(th) (min): 2.1 V; DatasheetVersion: Rev. 2.4; PackageVersion: Rev. 02, 03/2007; PackageReference: PG-TO252-3-11; PackageDescription: 3-Pin Plastic (Green) Transistor Single Outline Package, 6.57 x 6.1 mm Body, 2.29 mm Pitch; Supplier 1: Mouser; Supplier Part Number 1: 726-SPD07N20G; Supplier 2: Digi-Key; Supplier Part Number 2: SPD07N20 GTR-ND; Supplier 3: Digi-Key; Supplier Part Number 3: SPD07N20 GCT-ND; Supplier 4: Digi-Key; Supplier Part Number 4: SPD07N20 GDKR-ND; Packing: Reel; RthJC (max): 3.1 K/W; Mounting Technology: Surface Mount; ComponentLink1Description: Manufacturer URL; ComponentLink1URL: http://www.infineon.com/; ComponentLink2Description: Datasheet; ComponentLink2URL: http://www.infineon.com/dgdl/spd07n20_Rev%2B2.4.pdf?folderId=db3a30431a5c32f2011a809773886508&fileId=db3a30431f848401011fc73c3e60796a; ComponentLink3Description: Package Specification; ComponentLink3URL: http://www.infineon.com/dgdl/IPD160N04L_rev1.0.pdf?folderId=db3a3043163797a6011643468e7505a4&fileId=db3a3043163797a60116436401cf05cf
footprint INF-PG-TO252-3-11_A_N (DPAK, 3-Leads, Body 6.57x6.1mm, Pitch 2.29mm, IPC Medium Density)
footprint INF-PG-TO252-3-11_A_L (DPAK, 3-Leads, Body 6.57x6.1mm, Pitch 2.29mm, IPC High Density)
footprint INF-PG-TO252-3-11_A_M (DPAK, 3-Leads, Body 6.57x6.1mm, Pitch 2.29mm, IPC Low Density)
pins: 1 G, 2 D, 3 S

## SPD07N60C3
designator Q?
N-Channel CoolMOS Power-Transistor, 600 V VDS, 7.3 A ID, -55 to 150 degC, PG-TO252-3-1, Reel, Green; Manufacturer: Infineon; PartNumber: SPD07N60C3; Green: TRUE; ID (max): 7.3 A; IDpuls (max): 21.9 A; Polarity: N; Ptot (max): 83 W; QG: 21 nC; RDS (on) (max): 600 mOhm; Rth: 1.5 K/W; RthJA (max): 75 K/W; VDS (max): 600 V; VGS(th) (max): 3.9 V; VGS(th) (min): 2.1 V; DatasheetVersion: Rev. 2.6; PackageVersion: Jan-10; PackageReference: PG-TO252-3-1; PackageDescription: 3-Pin Plastic (Green) Transistor Single Outline Package, 6.5 x 6.12 mm Body, 2.28 mm Pitch; Supplier 1: Mouser; Supplier Part Number 1: 726-SPD07N60C3; Supplier 2: Newark; Supplier Part Number 2: 33P8209; Supplier 3: Farnell; Supplier Part Number 3: 1664111; Supplier 4: Farnell; Supplier Part Number 4: 1664111RL; Supplier 5: Digi-Key; Supplier Part Number 5: SPD07N60C3INTR-ND; Supplier 6: Digi-Key; Supplier Part Number 6: SPD07N60C3INCT-ND; Packing: Reel; RthJC (max): 1.5 K/W; Technology: CoolMOS C3; Mounting Technology: Surface Mount; ComponentLink1Description: Manufacturer URL; ComponentLink1URL: http://www.infineon.com/; ComponentLink2Description: Datasheet; ComponentLink2URL: http://www.infineon.com/dgdl/SPD_U07N60C3_Rev.2.5.pdf?folderId=db3a3043163797a6011637d4bae7003b&fileId=db3a304318f3fe29011908c61d7b29d0; ComponentLink3Description: Package Specification; ComponentLink3URL: http://www.infineon.com/dgdl/TLE42744_DS_11.pdf?folderId=db3a304318f3fe290118f5a433570040&fileId=db3a304327b897500128012ccafe37d2&sId=db3a30443d67b5ca013d83f7c0ea327b
footprint INF-PG-TO252-3-1_N (DPAK, 3-Leads, Body 6.525x6.12mm, Pitch 2.28mm, IPC Medium Density)
footprint INF-PG-TO252-3-1_L (DPAK, 3-Leads, Body 6.525x6.12mm, Pitch 2.28mm, IPC High Density)
footprint INF-PG-TO252-3-1_M (DPAK, 3-Leads, Body 6.525x6.12mm, Pitch 2.28mm, IPC Low Density)
pins: 1 GATE, 2 DRAIN, 3 SOURCE

## SPD07N60S5
designator Q?
Cool MOS Power Transistor, 600 V VDS, 7.3 A ID, PG-TO252-3, Reel, Green; Manufacturer: Infineon; PartNumber: SPD07N60S5; Green: TRUE; ID (max): 7.3 A; Polarity: N; RDS (on) (max): 600 mOhm; VDS (max): 600 V; DatasheetVersion: Rev. 2.6; PackageVersion: Rev. 03, 10/2007; PackageReference: PG-TO252-3; PackageDescription: 3-Pin Plastic (Green) Transistor Single Outline Package, 6.095 x 6.565 mm Body, 2.29 mm Pitch; Supplier 1: Digi-Key; Supplier Part Number 1: SPD07N60S5INTR-ND; Supplier 2: Digi-Key; Supplier Part Number 2: SPD07N60S5INCT-ND; Halogen-free: FALSE; Packing: Reel; Mounting Technology: Surface Mount; ComponentLink1Description: Manufacturer URL; ComponentLink1URL: http://www.infineon.com/; ComponentLink2Description: Datasheet; ComponentLink2URL: http://www.infineon.com/dgdl/SPD_U07N60S5_Rev.2.5.pdf?folderId=db3a30431a5c32f2011a809773886508&fileId=db3a30431ed1d7b2011f406ae8054f02; ComponentLink3Description: Package Specification; ComponentLink3URL: http://www.infineon.com/dgdl/IDD03SG60C_rev2.4.pdf?folderId=db3a304314dca38901151224afae0c96&fileId=db3a304327b897500127dcb296f11a53
footprint INF-PG-TO252-3_A_N (DPAK, 3-Leads, Body 6.565x6.095mm, Pitch 2.29mm, IPC Medium Density)
footprint INF-PG-TO252-3_A_L (DPAK, 3-Leads, Body 6.565x6.095mm, Pitch 2.29mm, IPC High Density)
footprint INF-PG-TO252-3_A_M (DPAK, 3-Leads, Body 6.565x6.095mm, Pitch 2.29mm, IPC Low Density)
pins: 1 GATE, 2 SOURCE, 3 DRAIN

## SPD08N50C3
designator Q?
N-Channel CoolMOS Power-Transistor, 500 V VDS, 7.6 A ID, -55 to 150 degC, PG-TO252-3-1, Reel, Green; Manufacturer: Infineon; PartNumber: SPD08N50C3; Green: TRUE; ID (max): 7.6 A; IDpuls (max): 22.8 A; Polarity: N; Ptot (max): 83 W; QG: 32 nC; RDS (on) (max): 600 mOhm; Rth: 1.5 K/W; RthJA (max): 75 K/W; VDS (max): 500 V; VGS(th) (max): 3.9 V; VGS(th) (min): 2.1 V; DatasheetVersion: Rev. 2.5; PackageVersion: Jan-10; PackageReference: PG-TO252-3-1; PackageDescription: 3-Pin Plastic (Green) Transistor Single Outline Package, 6.5 x 6.12 mm Body, 2.28 mm Pitch; Supplier 1: Mouser; Supplier Part Number 1: 726-SPD08N50C3; Supplier 2: Newark; Supplier Part Number 2: 33P8210; Supplier 3: Farnell; Supplier Part Number 3: 1664112; Supplier 4: Farnell; Supplier Part Number 4: 1664112RL; Supplier 5: Digi-Key; Supplier Part Number 5: SPD08N50C3INTR-ND; Supplier 6: Digi-Key; Supplier Part Number 6: SPD08N50C3INCT-ND; Supplier 7: Digi-Key; Supplier Part Number 7: SPD08N50C3INDKR-ND; Packing: Reel; RthJC (max): 1.5 K/W; Technology: CoolMOS C3; Mounting Technology: Surface Mount; ComponentLink1Description: Manufacturer URL; ComponentLink1URL: http://www.infineon.com/; ComponentLink2Description: Datasheet; ComponentLink2URL: http://www.infineon.com/dgdl/SPD08N50C3_Rev.2.5.pdf?folderId=db3a304412b407950112b408e8c90004&fileId=db3a304412b407950112b42cea7c47d0; ComponentLink3Description: Package Specification; ComponentLink3URL: http://www.infineon.com/dgdl/TLE42744_DS_11.pdf?folderId=db3a304318f3fe290118f5a433570040&fileId=db3a304327b897500128012ccafe37d2&sId=db3a30443d67b5ca013d83f7c0ea327b
footprint INF-PG-TO252-3-1_N (DPAK, 3-Leads, Body 6.525x6.12mm, Pitch 2.28mm, IPC Medium Density)
footprint INF-PG-TO252-3-1_L (DPAK, 3-Leads, Body 6.525x6.12mm, Pitch 2.28mm, IPC High Density)
footprint INF-PG-TO252-3-1_M (DPAK, 3-Leads, Body 6.525x6.12mm, Pitch 2.28mm, IPC Low Density)
pins: 1 GATE, 2 DRAIN, 3 SOURCE